# Altium footprint library MOLEX_Picoblade-Connectors.PcbLib: 3 footprints
Each footprint in its own frame and in the unit in brackets; x right, y up, seen from the top. Pads: shape width x height; smd on the part's side, far side on the other; paste and mask are expansions set on the pad; w line width, h text height; cw(c..) or ccw(c..) is an arc to the next point about the centre after c.
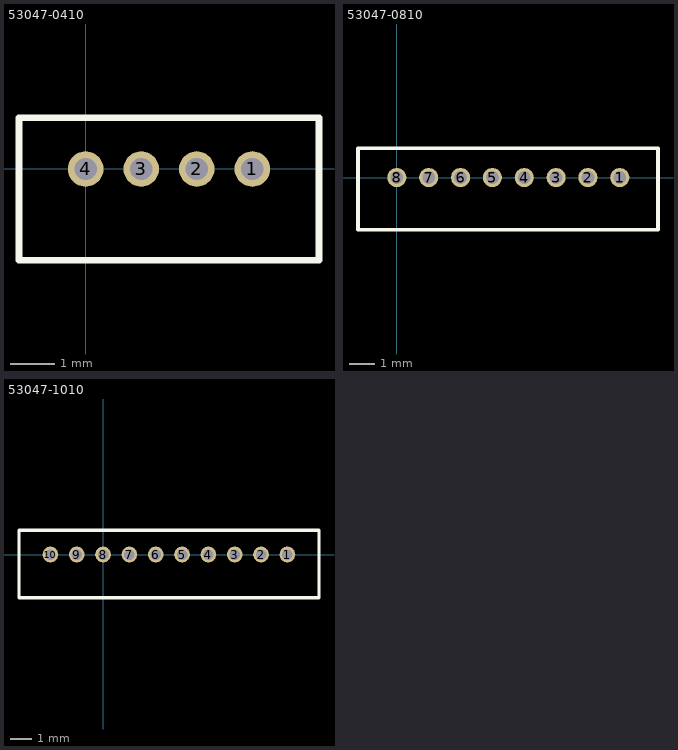
[diagram p0: the footprints below, top view; thin cyan lines are the x and y axes]

## 53047-0410 [mm] "Molex_Picoblade_4pin_53047-0410"
height 4.2
pads (4):
  round 0.8 hole 0.5: 1(3.75,0) 2(2.5,0) 3(1.25,0) 4(0,0)
Top Overlay:
  lines w0.15: -1.5,-2.05 5.25,-2.05 5.25,1.15 -1.5,1.15 -1.5,-2.05
3D body "Molex_Picoblade_4pin_53047-0410_CAD.stp": height 4.23, standoff -2.27, extent -1.5,-2.05 5.25,1.15

## 53047-0810 [mm] "Molex 0530470810"
height 5.2
pads (8):
  round 0.75 hole 0.5: 1(8.75,0) 2(7.5,0) 3(6.25,0) 4(5,0) 5(3.75,0) 6(2.5,0) 7(1.25,0) 8(0,0)
Top Overlay:
  lines w0.15: -1.524,1.15 -1.523,-2.05 10.25,-2.05 10.249,1.15 -1.524,1.15
3D body "Molex_0530470810.stp": height 4.25, standoff -2.25, extent -1.505,-2.05 10.245,1.15

## 53047-1010 [mm] "Molex_Picoblade_10pin_530471010"
pads (10):
  round 0.75 hole 0.5: 1(8.75,0) 2(7.5,0) 3(6.25,0) 4(5,0) 5(3.75,0) 6(2.5,0) 7(1.25,0) 8(0,0) 9(-1.25,0) 10(-2.5,0)
Top Overlay:
  lines w0.15: -3.991,1.15 -3.99,-2.05 10.25,-2.05 10.249,1.15 -3.991,1.15
3D body "Molex_530471010.stp": height 4.25, standoff -2.25, extent -3.995,-2.05 10.255,1.15